# EAGLE library part 4013 (library mmoretti)
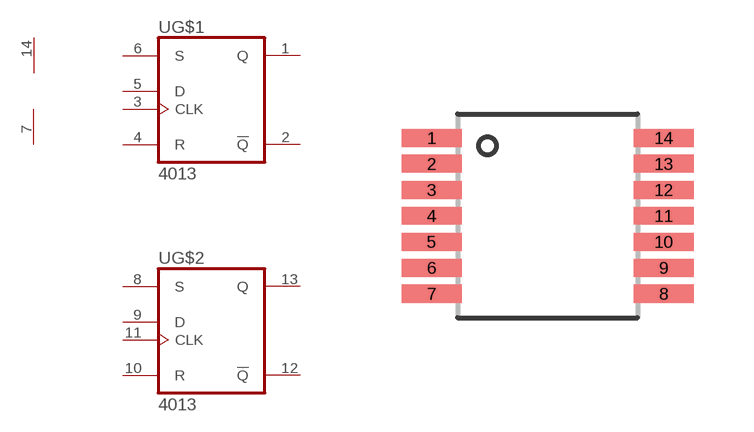
[diagram p18: symbol with the pads of TSSOP14-TI; footprint TSSOP14-TI]

Designator prefix -; gates G$1=4013 G$2=4013 G$3=PWR+-

## 4013  [TSSOP14-TI]
1  G$1:Q  out
2  G$1:!Q  out
3  G$1:CLK  in
4  G$1:R  in
5  G$1:D  in
6  G$1:S  in
7  G$3:V-  pwr
8  G$2:S  in
9  G$2:D  in
10  G$2:R  in
11  G$2:CLK  in
12  G$2:!Q  out
13  G$2:Q  out
14  G$3:V+  pwr

## Footprint TSSOP14-TI (pad centres in mm)
smd 1.5 x 0.45: 1 -2.9,1.95; 2 -2.9,1.3; 3 -2.9,0.65; 4 -2.9,0; 5 -2.9,-0.65; 6 -2.9,-1.3; 7 -2.9,-1.95; 8 2.9,-1.95; 9 2.9,-1.3; 10 2.9,-0.65; 11 2.9,0; 12 2.9,0.65; 13 2.9,1.3; 14 2.9,1.95